# EAGLE library part UQQ-15/7 (library power_converters)
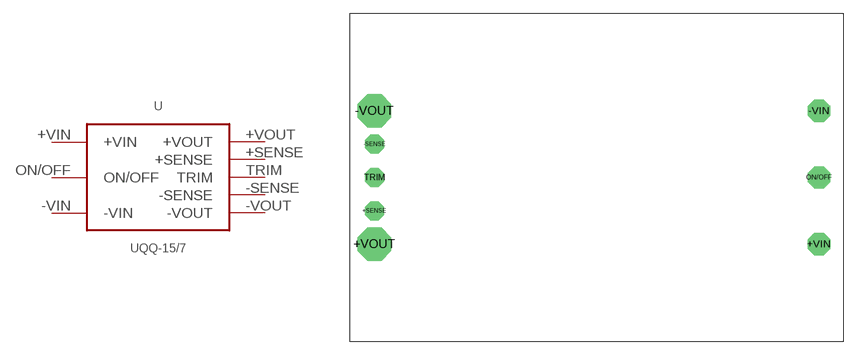
[diagram p1: symbol with the pads of UQQ-15/7; footprint UQQ-15/7]

Designator prefix -

## UQQ-15/7  [UQQ-15/7]
+SENSE  +SENSE  in
+VIN  +VIN  in
+VOUT  +VOUT  in
-SENSE  -SENSE  in
-VIN  -VIN  in
-VOUT  -VOUT  in
ON/OFF  ON/OFF  in
TRIM  TRIM  in

## Footprint UQQ-15/7 (pad centres in mm)
drill 1.143 pad 2.184 octagon: +SENSE -25.4,-3.81; -SENSE -25.4,3.81; TRIM -25.4,0
drill 1.143 pad 2.54 octagon: +VIN 25.4,-7.62; -VIN 25.4,7.62; ON/OFF 25.4,0
drill 1.626 pad 3.81 octagon: +VOUT -25.4,-7.62; -VOUT -25.4,7.62